# Altium footprint library DIOSC6959X240.PcbLib: 1 footprints
Each footprint in its own frame and in the unit in brackets; x right, y up, seen from the top. Pads: shape width x height; smd on the part's side, far side on the other; paste and mask are expansions set on the pad; w line width, h text height; cw(c..) or ccw(c..) is an arc to the next point about the centre after c.
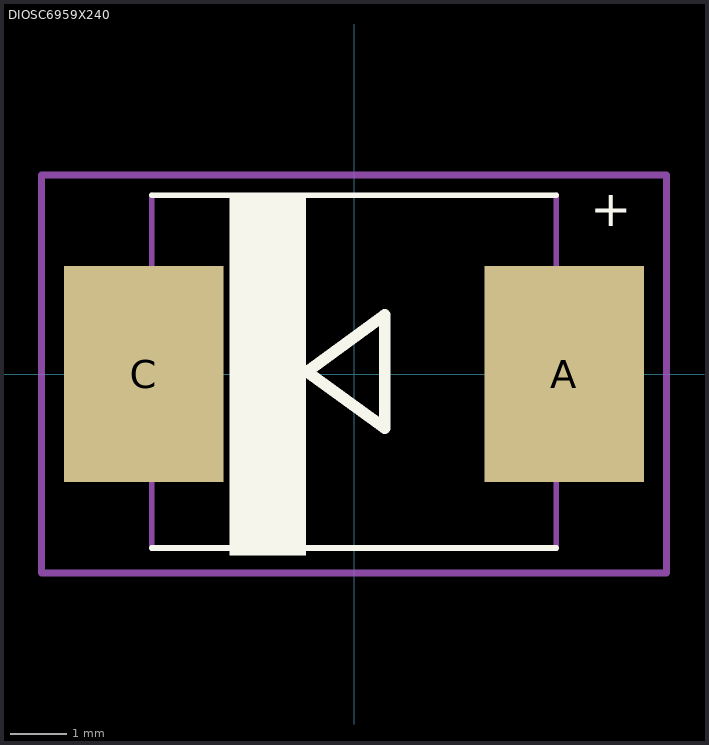
[diagram p0: the footprint, top view; thin cyan lines are the x and y axes]

## DIOSC6959X240 [mm]
pads (2):
  rect 2.8x3.8 smd: A(3.7,0) C(-3.7,0)
Top Overlay:
  region: -0.85,-3.188 -2.189,-3.188 -2.189,3.142 -0.85,3.142
  lines w0.102: -3.561,-3.063 3.561,-3.063 ; -3.561,3.147 3.561,3.147
  lines w0.203: -0.83,0.042 0.543,-0.958 0.543,1.042 -0.83,0.042
  text "+" at 4.159,2.599 h0.63
Mechanical 13:
  region: 4.094,-1.096 3.718,-1.096 3.718,1.135 4.094,1.135
  region: -3.561,-1.099 -4.285,-1.099 -4.285,1.135 -3.561,1.135
  lines w0.102: -3.561,-3.063 -3.561,3.147 ; 3.561,-3.063 3.561,3.147
Mechanical 15:
  lines w0.127: -5.5,-3.5 -5.5,3.5 5.5,3.5 5.5,-3.5 -5.5,-3.5